# EAGLE library part MICROSD_NOCD (library microsd)
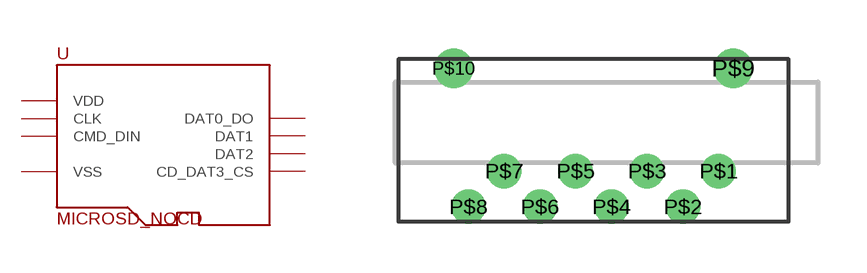
[diagram p0: symbol with the pads of PJS008U-3000-0; footprint PJS008U-3000-0]

Designator prefix -

## MICROSD_NOCD  [PJS008U-3000-0]
P$1  DAT2
P$2  CD_DAT3_CS
P$3  CMD_DIN
P$4  VDD
P$5  CLK
P$6  VSS
P$7  DAT0_DO
P$8  DAT1
P$9  VSS
P$10  VSS

## Footprint PJS008U-3000-0 (pad centres in mm)
drill 0.55: P$1 3.45,-1.5; P$2 2.35,-2.6; P$3 1.25,-1.5; P$4 0.15,-2.6; P$5 -0.95,-1.5; P$6 -2.05,-2.6; P$7 -3.15,-1.5; P$8 -4.25,-2.6
drill 0.7: P$9 3.9,1.67; P$10 -4.7,1.67